# EAGLE library part SN74LS86ANSR (library SN74LS86ANSR)
Quad 2-input exclusive-OR gates Source: Datasheet <http://www.ti.com/lit/gpn/sn74ls86a>
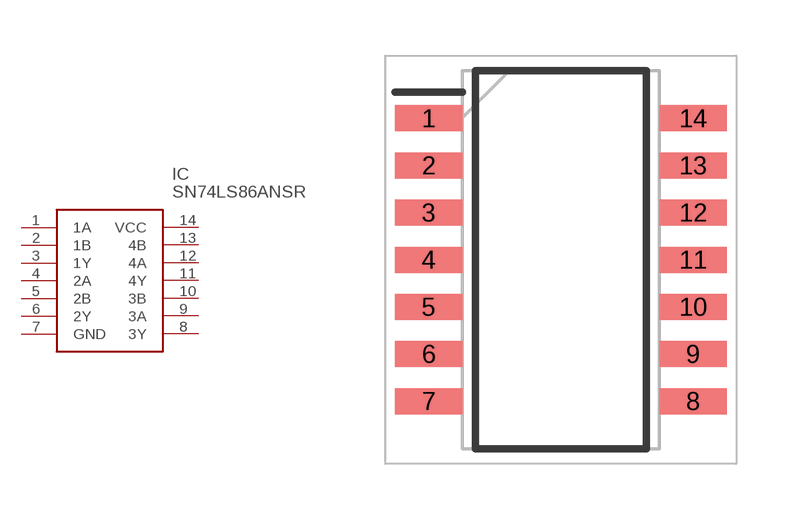
[diagram p0: symbol with the pads of SOIC127P780X200-14N; footprint SOIC127P780X200-14N]

Designator prefix IC

## SN74LS86ANSR (Description: Quad 2-input exclusive-OR gates; Height: 2mm; Manufacturer_Name: Texas Instruments; Manufacturer_Part_Number: SN74LS86ANSR; Mouser_Part_Number: 595-SN74LS86ANSR; Mouser_Price-Stock: https://www.mouser.co.uk/ProductDetail/Texas-Instruments/SN74LS86ANSR/?qs=UG%2F8xqv%2F6WeoQ0Mi2JBGrw%3D%3D)  [SOIC127P780X200-14N]
1  1A
2  1B
3  1Y
4  2A
5  2B
6  2Y
7  GND
8  3Y
9  3A
10  3B
11  4Y
12  4A
13  4B
14  VCC

## Footprint SOIC127P780X200-14N (pad centres in mm)
SN74LS86ANSR-
smd 1.825 x 0.7: 1 -3.562,3.81; 2 -3.562,2.54; 3 -3.562,1.27; 4 -3.562,0; 5 -3.562,-1.27; 6 -3.562,-2.54; 7 -3.562,-3.81; 8 3.562,-3.81; 9 3.562,-2.54; 10 3.562,-1.27; 11 3.562,0; 12 3.562,1.27; 13 3.562,2.54; 14 3.562,3.81